# Altium schematic symbol library Module.SchLib: 21 symbols
Pins are listed as number, name and electrical type; pins without a type are passive.

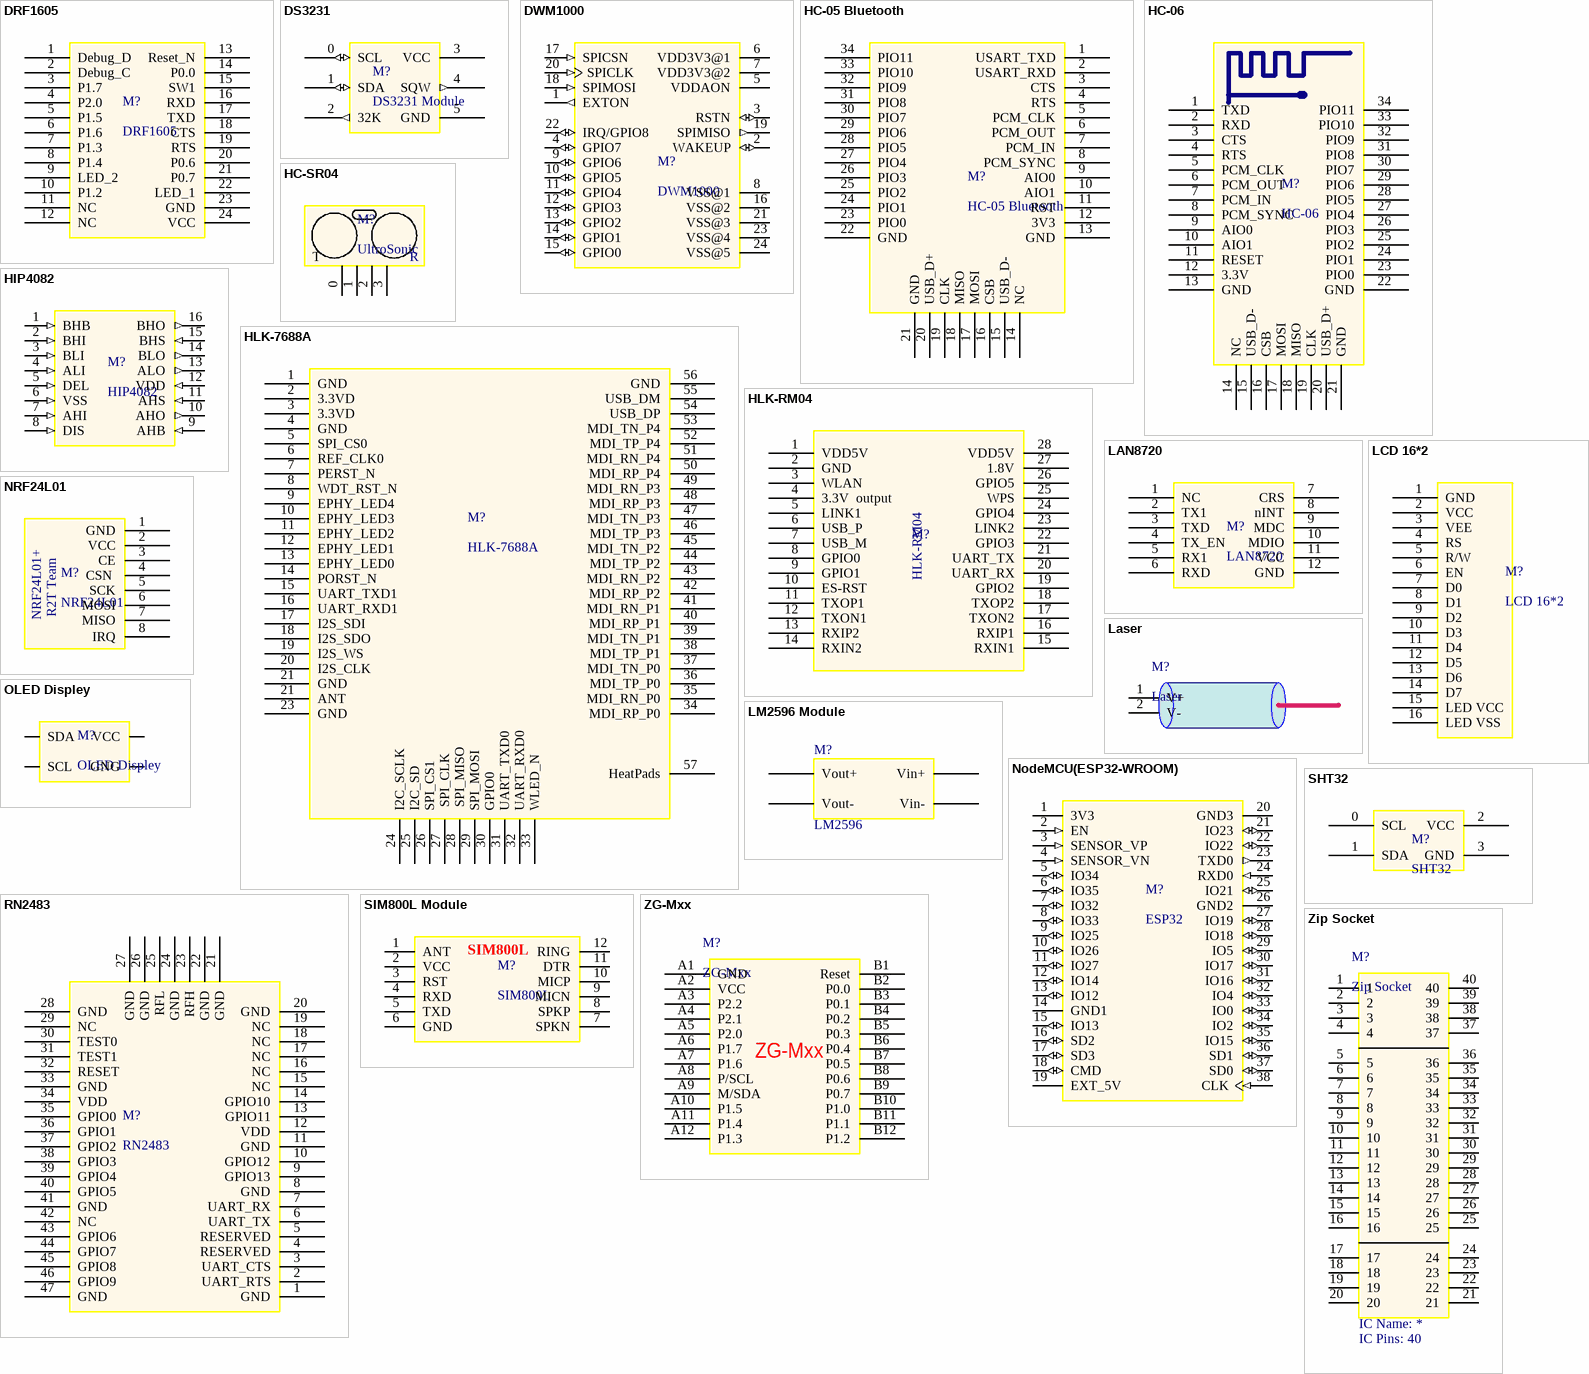
[diagram p0: symbols DRF1605 to Zip Socket]

## DRF1605
designator M?
Zigbee
footprint DRF1605
pins: 1 Debug_D, 2 Debug_C, 3 P1.7, 4 P2.0, 5 P1.5, 6 P1.6, 7 P1.3, 8 P1.4, 9 LED_2, 10 P1.2, 11 NC, 12 NC, 13 Reset_N, 14 P0.0, 15 SW1, 16 RXD, 17 TXD, 18 CTS, 19 RTS, 20 P0.6, 21 P0.7, 22 LED_1, 23 GND, 24 VCC

## DS3231
designator M?, comment DS3231 Module
footprint DS3231
pins: 0 SCL (io), 1 SDA (io), 2 32K (out), 3 VCC (power), 4 SQW (out), 5 GND (power)

## DWM1000
designator M?
footprint DWM1000
pins: 1 EXTON (out), 2 WAKEUP (io), 3 RSTN (io), 4 GPIO7 (io), 5 VDDAON (power), 6 VDD3V3@1 (power), 7 VDD3V3@2 (power), 8 VSS@1 (power), 9 GPIO6 (io), 10 GPIO5 (io), 11 GPIO4 (io), 12 GPIO3 (io), 13 GPIO2 (io), 14 GPIO1 (io), 15 GPIO0 (io), 16 VSS@2 (power), 17 SPICSN (in), 18 SPIMOSI (in), 19 SPIMISO (out), 20 SPICLK (in), 21 VSS@3 (power), 22 IRQ/GPIO8 (io), 23 VSS@4 (power), 24 VSS@5 (power)

## HC-05 Bluetooth
designator M?
footprint HC-05
pins: 1 USART_TXD, 2 USART_RXD, 3 CTS, 4 RTS, 5 PCM_CLK, 6 PCM_OUT, 7 PCM_IN, 8 PCM_SYNC, 9 AIO0, 10 AIO1, 11 RST, 12 3V3, 13 GND, 14 NC, 15 USB_D-, 16 CSB, 17 MOSI, 18 MISO, 19 CLK, 20 USB_D+, 21 GND, 22 GND, 23 PIO0, 24 PIO1, 25 PIO2, 26 PIO3, 27 PIO4, 28 PIO5, 29 PIO6, 30 PIO7, 31 PIO8, 32 PIO9, 33 PIO10, 34 PIO11

## HC-06
designator M?
无线蓝牙模块2.0
footprint HC-06 (无线蓝牙模块2.0)
pins: 1 TXD, 2 RXD, 3 CTS, 4 RTS, 5 PCM_CLK, 6 PCM_OUT, 7 PCM_IN, 8 PCM_SYNC, 9 AIO0, 10 AIO1, 11 RESET, 12 3.3V, 13 GND, 14 NC, 15 USB_D-, 16 CSB, 17 MOSI, 18 MISO, 19 CLK, 20 USB_D+, 21 GND, 22 GND, 23 PIO0, 24 PIO1, 25 PIO2, 26 PIO3, 27 PIO4, 28 PIO5, 29 PIO6, 30 PIO7, 31 PIO8, 32 PIO9, 33 PIO10, 34 PIO11

## HC-SR04
designator M?, comment UltroSonic
超声波测距模块
footprint HC-SR04 (超声波测距模块)
pins: 0 VCC, 1 Trig, 2 Echo, 3 GND
text: T; R

## HIP4082
designator M?
footprint SOIC16-Hip4082
footprint DIP16-Hip4082
pins: 1 BHB (in), 2 BHI (in), 3 BLI (in), 4 ALI (in), 5 DEL (in), 6 VSS (in), 7 AHI (in), 8 DIS (in), 9 AHB (in), 10 AHO (out), 11 AHS (in), 12 VDD (in), 13 ALO (out), 14 BLO (out), 15 BHS (in), 16 BHO (out)

## HLK-7688A
designator M?
footprint HLK-7688A
pins: 1 GND, 2 3.3VD, 3 3.3VD, 4 GND, 5 SPI_CS0, 6 REF_CLK0, 7 PERST_N, 8 WDT_RST_N, 9 EPHY_LED4, 10 EPHY_LED3, 11 EPHY_LED2, 12 EPHY_LED1, 13 EPHY_LED0, 14 PORST_N, 15 UART_TXD1, 16 UART_RXD1, 17 I2S_SDI, 18 I2S_SDO, 19 I2S_WS, 20 I2S_CLK, 21 GND, 21 ANT, 23 GND, 24 I2C_SCLK, 25 I2C_SD, 26 SPI_CS1, 27  SPI_CLK, 28  SPI_MISO, 29 SPI_MOSI, 30 GPIO0, 31 UART_TXD0, 32 UART_RXD0, 33 WLED_N, 34 MDI_RP_P0, 35 MDI_RN_P0, 36 MDI_TP_P0, 37 MDI_TN_P0, 38 MDI_TP_P1, 39 MDI_TN_P1, 40 MDI_RP_P1, 41 MDI_RN_P1, 42 MDI_RP_P2, 43 MDI_RN_P2, 44  MDI_TP_P2, 45 MDI_TN_P2, 46 MDI_TP_P3, 47 MDI_TN_P3, 48 MDI_RP_P3, 49 MDI_RN_P3, 50 MDI_RP_P4, 51  MDI_RN_P4, 52 MDI_TP_P4, 53 MDI_TN_P4, 54 USB_DP, 55 USB_DM, 56 GND, 57 HeatPads

## HLK-RM04
designator M?  (value not drawn)
footprint HLK-RM04
pins: 1 VDD5V, 2 GND, 3 WLAN, 4 3.3V  output, 5 LINK1 , 6 USB_P , 7 USB_M, 8 GPIO0, 9 GPIO1, 10 ES-RST, 11 TXOP1, 12 TXON1, 13 RXIP2, 14 RXIN2, 15 RXIN1, 16 RXIP1, 17 TXON2, 18 TXOP2, 19 GPIO2, 20 UART_RX, 21 UART_TX, 22 GPIO3, 23 LINK2, 24 GPIO4, 25 WPS, 26 GPIO5, 27 1.8V, 28 VDD5V

## LAN8720
designator M?
footprint LAN8720_module
pins: 1 NC, 2 TX1, 3 TXD, 4 TX_EN, 5 RX1, 6 RXD, 7 CRS, 8 nINT, 9 MDC, 10 MDIO, 11 VCC, 12 GND

## Laser
designator M?
Designer: Saeid Jorablo; Company: Personal; Project Name: Abtahi; Adding Date: 10/21/2009; Wave Lenght: *; Power: *; Voltage: *
footprint Laser
pins: 1 V+, 2 V-

## LCD 16*2
designator M?
footprint LCD 16*2
pins: 1 GND, 2 VCC, 3 VEE, 4 RS, 5 R/W, 6 EN, 7 D0, 8 D1, 9 D2, 10 D3, 11 D4, 12 D5, 13 D6, 14 D7, 15 LED VCC, 16 LED VSS

## LM2596 Module
designator M?, comment LM2596
footprint LM2596 Module
pins: 1 Vin+, 2 Vin-, 3 Vout+, 4 Vout-

## NodeMCU(ESP32-WROOM)
designator M?, comment ESP32
footprint NodeMCU(ESP32)
pins: 1 3V3 (power), 2 EN (in), 3 SENSOR_VP (in), 4 SENSOR_VN (in), 5 IO34 (io), 6 IO35 (io), 7 IO32 (io), 8 IO33 (io), 9 IO25 (io), 10 IO26 (io), 11 IO27 (io), 12 IO14 (io), 13 IO12 (io), 14 GND1 (power), 15 IO13 (io), 16 SD2 (io), 17 SD3 (io), 18 CMD (io), 19 EXT_5V (power), 20 GND3 (power), 21 IO23 (io), 22 IO22 (io), 23 TXD0 (out), 24 RXD0 (in), 25 IO21 (io), 26 GND2 (power), 27 IO19 (io), 28 IO18 (io), 29 IO5 (io), 30 IO17 (io), 31 IO16 (io), 32 IO4 (io), 33 IO0 (io), 34 IO2 (io), 35 IO15 (io), 36 SD1 (io), 37 SD0 (io), 38 CLK (in)

## NRF24L01
designator M?
Designer:: HamedJafarzadeh
footprint NRF24L01+_Module
footprint NRF24L01+_Module-LNA+PA
footprint NRF24L01P_SMD
pins: 1 GND, 2 VCC, 3 CE, 4 CSN , 5 SCK, 6 MOSI, 7 MISO, 8 IRQ
text: NRF24L01+; R2T Team

## OLED Displey
designator M?
Arduino OLED 0.96Inch Module
footprint Arduino OLED 0.96Inch
pins: 1 SDA, 2 SCL, 3 VCC, 4 GNG

## RN2483
designator M?
RN2483 - Microchip
footprint RN2483 (RN2483_MICROCHIP)
pins: 1 GND, 2 UART_RTS, 3 UART_CTS, 4 RESERVED, 5 RESERVED, 6 UART_TX, 7 UART_RX, 8 GND, 9 GPIO13, 10 GPIO12, 11 GND, 12 VDD, 13 GPIO11, 14 GPIO10, 15 NC, 16 NC, 17 NC, 18 NC, 19 NC, 20 GND, 21 GND, 22 GND, 23 RFH, 24 GND, 25 RFL, 26 GND, 27 GND, 28 GND, 29 NC, 30 TEST0, 31 TEST1, 32 RESET, 33 GND, 34 VDD, 35 GPIO0, 36 GPIO1, 37 GPIO2, 38 GPIO3, 39 GPIO4, 40 GPIO5, 41 GND, 42 NC, 43 GPIO6, 44 GPIO7, 45 GPIO8, 46 GPIO9, 47 GND

## SHT32
designator M?
footprint SHT31
footprint HDR-1X4_M (ï؟½ï؟½ؤ¸ï؟½ï؟½4ï؟½ï؟½)
pins: 0 SCL, 1 SDA, 2 VCC, 3 GND

## SIM800L Module
designator M?, comment SIM800L
footprint SIM800L_Module
pins: 1 ANT, 2 VCC (power), 3 RST, 4 RXD, 5 TXD, 6 GND (power), 7 SPKN, 8 SPKP, 9 MICN, 10 MICP, 11 DTR, 12 RING

## ZG-Mxx
designator M?
Zigbee Ghostyu
footprint ZG-M0
footprint ZG-M1/1E
footprint ZG-M0/M1/M1E
pins: A1 GND, A2 VCC, A3 P2.2, A4 P2.1, A5 P2.0, A6 P1.7, A7 P1.6, A8 P/SCL, A9 M/SDA, A10 P1.5, A11 P1.4, A12 P1.3, B1 Reset, B2 P0.0, B3 P0.1, B4 P0.2, B5 P0.3, B6 P0.4, B7 P0.5, B8 P0.6, B9 P0.7, B10 P1.0, B11 P1.1, B12 P1.2

## Zip Socket
designator M?  IC Pins: 40
Zip/Zif Socket; Company: ECI CO.; Adding Date: 11/25/2011; IC Name: *
footprint Zip Socket
pins: 1, 2, 3, 4, 5, 6, 7, 8, 9, 10, 11, 12, 13, 14, 15, 16, 17, 18, 19, 20, 21, 22, 23, 24, 25, 26, 27, 28, 29, 30, 31, 32, 33, 34, 35, 36, 37, 38, 39, 40